# EAGLE library part 74ABT32D,118 (library 74ABT32D_118)
74ABT32 - Quad 2-input OR gate@en-us Source: Datasheet <https://assets.nexperia.com/documents/data-sheet/74ABT32.pdf>
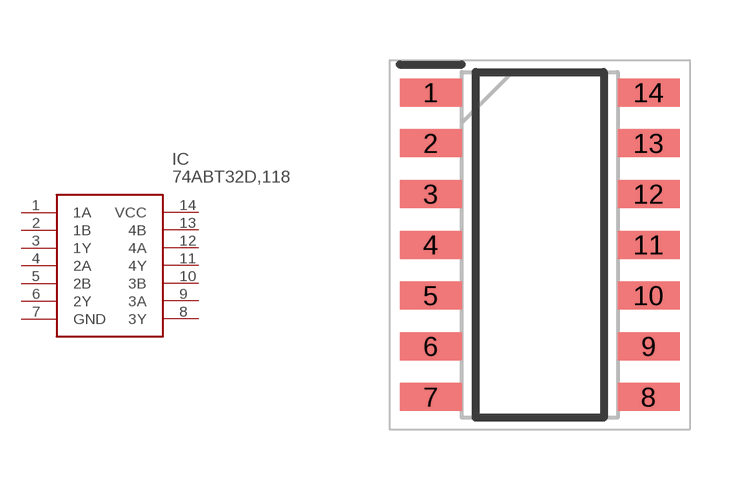
[diagram p0: symbol with the pads of SOIC127P600X175-14N; footprint SOIC127P600X175-14N]

Designator prefix IC

## 74ABT32D,118 (Description: 74ABT32 - Quad 2-input OR gate@en-us; Height: 1.75mm; Manufacturer_Name: Nexperia; Manufacturer_Part_Number: 74ABT32D,118; Mouser_Part_Number: 771-ABT32D118; Mouser_Price-Stock: https://www.mouser.co.uk/ProductDetail/Nexperia/74ABT32D118?qs=P62ublwmbi%2FCK0s0KY0Vig%3D%3D)  [SOIC127P600X175-14N]
1  1A
2  1B
3  1Y
4  2A
5  2B
6  2Y
7  GND
8  3Y
9  3A
10  3B
11  4Y
12  4A
13  4B
14  VCC

## Footprint SOIC127P600X175-14N (pad centres in mm)
SOT108-1
smd 1.55 x 0.7: 1 -2.725,3.81; 2 -2.725,2.54; 3 -2.725,1.27; 4 -2.725,0; 5 -2.725,-1.27; 6 -2.725,-2.54; 7 -2.725,-3.81; 8 2.725,-3.81; 9 2.725,-2.54; 10 2.725,-1.27; 11 2.725,0; 12 2.725,1.27; 13 2.725,2.54; 14 2.725,3.81